# EAGLE library part PINHD-1X11 (library SquantorConnectors)
PIN HEADER
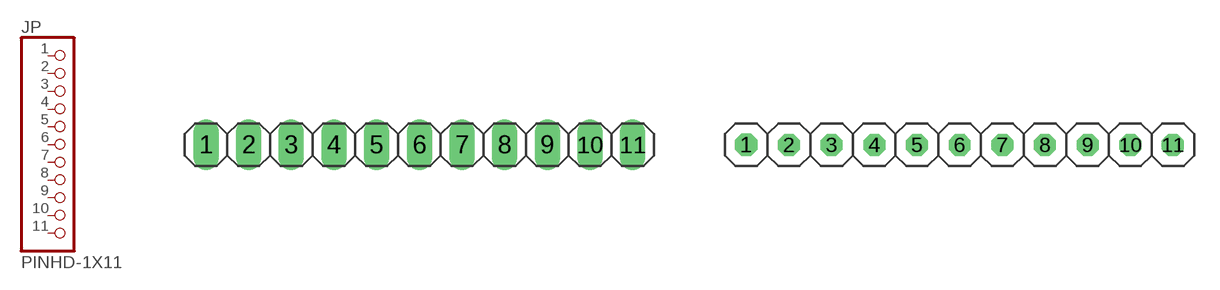
[diagram p11: symbol with the pads of 1X11; footprints 1X11, 1X11_SMALL]

Designator prefix JP

## PINHD-1X11TH_NORMAL  [1X11]
1  1  pas
2  2  pas
3  3  pas
4  4  pas
5  5  pas
6  6  pas
7  7  pas
8  8  pas
9  9  pas
10  10  pas
11  11  pas

## PINHD-1X11TH_SMALL  [1X11_SMALL]
Pads as for 1X11

## Footprint 1X11 (pad centres in mm)
PIN HEADER
drill 1.016 long: 1 -12.7,0; 2 -10.16,0; 3 -7.62,0; 4 -5.08,0; 5 -2.54,0; 6 0,0; 7 2.54,0; 8 5.08,0; 9 7.62,0; 10 10.16,0; 11 12.7,0

## Footprint 1X11_SMALL (pad centres in mm)
drill 0.85 octagon: 1 -12.7,0
drill 0.8 octagon: 2 -10.16,0; 3 -7.62,0; 4 -5.08,0; 5 -2.54,0; 6 0,0; 7 2.54,0; 8 5.08,0; 9 7.62,0; 10 10.16,0; 11 12.7,0